# Altium footprint library LTC4359IMS8#PBF.PcbLib: 3 footprints
Each footprint in its own frame and in the unit in brackets; x right, y up, seen from the top. Pads: shape width x height; smd on the part's side, far side on the other; paste and mask are expansions set on the pad; w line width, h text height; cw(c..) or ccw(c..) is an arc to the next point about the centre after c.
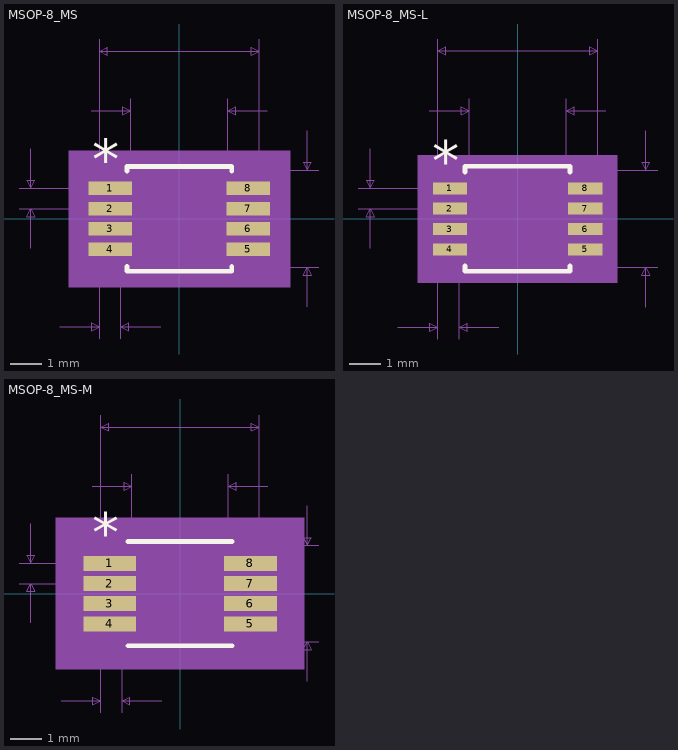
[diagram p0: the footprints below, top view; thin cyan lines are the x and y axes]

## MSOP-8_MS [mil]
pads (8):
  rect 55x17 smd paste+0 mask+0: 1(-87,38.39) 2(-87,12.8) 3(-87,-12.8) 4(-87,-38.39) 5(87,-38.39) 6(87,-12.8) 7(87,12.8) 8(87,38.39)
Top Overlay:
  lines w6: -66,-59.99 -66,-66 66,-66 66,-59.99 ; -66,59.99 -66,66 66,66 66,59.99
  text "*" at -109.5,50.39 h50
Mechanical 5:
  region: 139.5,-86 -139.5,-86 -139.5,86 139.5,86
Mechanical 7:
  lines w1: -202,12.8 -87,12.8 ; -202,38.39 -87,38.39 ; -187,-37.2 -187,12.8 ; -187,88.39 -187,38.39 ; -150.5,-136 -100.5,-136 ; -111,136 -61,136 ; -100.5,-151 -100.5,0 -100.5,226 ; -73.5,-151 -73.5,0 ; -61,0 -61,151 ; -23.5,-136 -73.5,-136 ; 0,-61 176,-61 ; 0,61 176,61 ; 61,0 61,151 ; 100.5,0 100.5,226 ; 111,136 61,136 ; 161,-111 161,-61 ; 161,111 161,61 ; -187,12.8 -192,2.8 -182,2.8 -187,12.8 ; -187,38.39 -192,48.39 -182,48.39 -187,38.39 ; -100.5,-136 -110.5,-131 -110.5,-141 -100.5,-136 ; -100.5,211 100.5,211 ; -100.5,211 -90.5,216 -90.5,206 -100.5,211 ; -73.5,-136 -63.5,-131 -63.5,-141 -73.5,-136 ; -61,136 -71,141 -71,131 -61,136 ; 61,136 71,141 71,131 61,136 ; 100.5,211 90.5,216 90.5,206 100.5,211 ; 161,-61 156,-71 166,-71 161,-61 ; 161,61 156,71 166,71 161,61
  text "Default Padstyle: RX55Y17D0T" at -350,-261 h50
  text "Pin One Padstyle: RX55Y17D0T" at -350,-321 h50
  text "Alt 1 Padstyle: OX60Y90D30P" at -337.5,-501 h50
  text "Alt 2 Padstyle: OX90Y60D30P" at -337.5,-561 h50
  text "0.122in/3.099mm" at -93.75,156 h25
  text "0.201in/5.105mm" at -93.75,231 h25
  text "0.122in/3.099mm" at 181,-12.5 h25
  text "0.026in/0.65mm" at -382,13.09 h25
  text "0.027in/0.686mm" at -180.75,-181 h25
Mechanical 13:
  lines w0: -12,61 ccw(c0,61) 12,61
  lines w1: -100.5,-45.89 -100.5,-30.89 -61,-30.89 -61,-45.89 -100.5,-45.89 ; -100.5,-20.3 -100.5,-5.3 -61,-5.3 -61,-20.3 -100.5,-20.3 ; -100.5,5.3 -100.5,20.3 -61,20.3 -61,5.3 -100.5,5.3 ; -100.5,30.89 -100.5,45.89 -61,45.89 -61,30.89 -100.5,30.89 ; -61,-61 61,-61 61,61 -61,61 -61,-61 ; 61,-45.89 61,-30.89 100.5,-30.89 100.5,-45.89 61,-45.89 ; 61,-20.3 61,-5.3 100.5,-5.3 100.5,-20.3 61,-20.3 ; 61,5.3 61,20.3 100.5,20.3 100.5,5.3 61,5.3 ; 61,30.89 61,45.89 100.5,45.89 100.5,30.89 61,30.89
  text "*" at -58.5,8 h50
Mechanical 15:
  region: -71,-56.89 -124.5,-56.89 -124.5,56.89 -71,56.89 -71,71 71,71 71,56.89 124.5,56.89 124.5,-56.89 71,-56.89 71,-71 -71,-71
  lines w6: -124.5,-56.89 -124.5,56.89 -71,56.89 -71,71 71,71 71,56.89 124.5,56.89 124.5,-56.89 71,-56.89 71,-71 -71,-71 -71,-56.89 -124.5,-56.89
3D body "MSOP-8_MS.step": height 43.11, standoff 0, extent -100.51,-60 100.51,61.97
3D body: height 10, standoff 0, extent 0,0 10,10

## MSOP-8_MS-L [mil]
pads (8):
  rect 43x15 smd paste+0 mask+0: 1(-85,38.39) 2(-85,12.8) 3(-85,-12.8) 4(-85,-38.39) 5(85,-38.39) 6(85,-12.8) 7(85,12.8) 8(85,38.39)
Top Overlay:
  lines w6: -66,-58.99 -66,-66 66,-66 66,-58.99 ; -66,58.99 -66,66 66,66 66,58.99
  text "*" at -107.5,48.39 h50
Mechanical 5:
  region: 125.5,-80 -125.5,-80 -125.5,80 125.5,80
Mechanical 7:
  lines w1: -200,12.8 -85,12.8 ; -200,38.39 -85,38.39 ; -185,-37.2 -185,12.8 ; -185,88.39 -185,38.39 ; -150.5,-136 -100.5,-136 ; -111,136 -61,136 ; -100.5,-151 -100.5,0 -100.5,226 ; -73.5,-151 -73.5,0 ; -61,0 -61,151 ; -23.5,-136 -73.5,-136 ; 0,-61 176,-61 ; 0,61 176,61 ; 61,0 61,151 ; 100.5,0 100.5,226 ; 111,136 61,136 ; 161,-111 161,-61 ; 161,111 161,61 ; -185,12.8 -180,2.8 -190,2.8 -185,12.8 ; -185,38.39 -180,48.39 -190,48.39 -185,38.39 ; -100.5,-136 -110.5,-141 -110.5,-131 -100.5,-136 ; -100.5,211 -90.5,206 -90.5,216 -100.5,211 ; -100.5,211 100.5,211 ; -73.5,-136 -63.5,-141 -63.5,-131 -73.5,-136 ; -61,136 -71,131 -71,141 -61,136 ; 61,136 71,131 71,141 61,136 ; 100.5,211 90.5,206 90.5,216 100.5,211 ; 161,-61 166,-71 156,-71 161,-61 ; 161,61 166,71 156,71 161,61
  text "0.027in/0.686mm" at -180.75,-181 h25
  text "0.026in/0.65mm" at -380,13.09 h25
  text "0.122in/3.099mm" at 181,-12.5 h25
  text "0.201in/5.105mm" at -93.75,231 h25
  text "0.122in/3.099mm" at -93.75,156 h25
  text "Alt 2 Padstyle: OX90Y60D30P" at -337.5,-561 h50
  text "Alt 1 Padstyle: OX60Y90D30P" at -337.5,-501 h50
  text "Pin One Padstyle: RX43Y15D0T" at -350,-321 h50
  text "Default Padstyle: RX43Y15D0T" at -350,-261 h50
Mechanical 13:
  lines w0: -12,61 ccw(c0,61) 12,61
  lines w1: -100.5,-45.89 -61,-45.89 -61,-30.89 -100.5,-30.89 -100.5,-45.89 ; -100.5,-20.3 -61,-20.3 -61,-5.3 -100.5,-5.3 -100.5,-20.3 ; -100.5,5.3 -61,5.3 -61,20.3 -100.5,20.3 -100.5,5.3 ; -100.5,30.89 -61,30.89 -61,45.89 -100.5,45.89 -100.5,30.89 ; -61,-61 -61,61 61,61 61,-61 -61,-61 ; 61,-45.89 100.5,-45.89 100.5,-30.89 61,-30.89 61,-45.89 ; 61,-20.3 100.5,-20.3 100.5,-5.3 61,-5.3 61,-20.3 ; 61,5.3 100.5,5.3 100.5,20.3 61,20.3 61,5.3 ; 61,30.89 100.5,30.89 100.5,45.89 61,45.89 61,30.89
  text "*" at -58.5,8 h50
Mechanical 15:
  region: -65,-49.89 -110.5,-49.89 -110.5,49.89 -65,49.89 -65,65 65,65 65,49.89 110.5,49.89 110.5,-49.89 65,-49.89 65,-65 -65,-65
  lines w6: -110.5,-49.89 -65,-49.89 -65,-65 65,-65 65,-49.89 110.5,-49.89 110.5,49.89 65,49.89 65,65 -65,65 -65,49.89 -110.5,49.89 -110.5,-49.89
3D body: height 10, standoff 0, extent 0,0 10,10

## MSOP-8_MS-M [mil]
pads (8):
  rect 67x19 smd paste+0 mask+0: 1(-89,38.39) 2(-89,12.8) 3(-89,-12.8) 4(-89,-38.39) 5(89,-38.39) 6(89,-12.8) 7(89,12.8) 8(89,38.39)
Top Overlay:
  lines w6: -66,-66 66,-66 ; -66,66 66,66
  text "*" at -111.5,52.39 h50
Mechanical 5:
  region: 157.5,-96 -157.5,-96 -157.5,96 157.5,96
Mechanical 7:
  lines w1: -204,12.8 -89,12.8 ; -204,38.39 -89,38.39 ; -189,-37.2 -189,12.8 ; -189,88.39 -189,38.39 ; -150.5,-136 -100.5,-136 ; -111,136 -61,136 ; -100.5,-151 -100.5,0 -100.5,226 ; -73.5,-151 -73.5,0 ; -61,0 -61,151 ; -23.5,-136 -73.5,-136 ; 0,-61 176,-61 ; 0,61 176,61 ; 61,0 61,151 ; 100.5,0 100.5,226 ; 111,136 61,136 ; 161,-111 161,-61 ; 161,111 161,61 ; -189,12.8 -184,2.8 -194,2.8 -189,12.8 ; -189,38.39 -184,48.39 -194,48.39 -189,38.39 ; -100.5,-136 -110.5,-141 -110.5,-131 -100.5,-136 ; -100.5,211 -90.5,206 -90.5,216 -100.5,211 ; -100.5,211 100.5,211 ; -73.5,-136 -63.5,-141 -63.5,-131 -73.5,-136 ; -61,136 -71,131 -71,141 -61,136 ; 61,136 71,131 71,141 61,136 ; 100.5,211 90.5,206 90.5,216 100.5,211 ; 161,-61 166,-71 156,-71 161,-61 ; 161,61 166,71 156,71 161,61
  text "0.027in/0.686mm" at -180.75,-181 h25
  text "0.026in/0.65mm" at -384,13.09 h25
  text "0.122in/3.099mm" at 181,-12.5 h25
  text "0.201in/5.105mm" at -93.75,231 h25
  text "0.122in/3.099mm" at -93.75,156 h25
  text "Alt 2 Padstyle: OX90Y60D30P" at -337.5,-561 h50
  text "Alt 1 Padstyle: OX60Y90D30P" at -337.5,-501 h50
  text "Pin One Padstyle: RX67Y19D0T" at -350,-321 h50
  text "Default Padstyle: RX67Y19D0T" at -350,-261 h50
Mechanical 13:
  lines w0: -12,61 ccw(c0,61) 12,61
  lines w1: -100.5,-45.89 -61,-45.89 -61,-30.89 -100.5,-30.89 -100.5,-45.89 ; -100.5,-20.3 -61,-20.3 -61,-5.3 -100.5,-5.3 -100.5,-20.3 ; -100.5,5.3 -61,5.3 -61,20.3 -100.5,20.3 -100.5,5.3 ; -100.5,30.89 -61,30.89 -61,45.89 -100.5,45.89 -100.5,30.89 ; -61,-61 -61,61 61,61 61,-61 -61,-61 ; 61,-45.89 100.5,-45.89 100.5,-30.89 61,-30.89 61,-45.89 ; 61,-20.3 100.5,-20.3 100.5,-5.3 61,-5.3 61,-20.3 ; 61,5.3 100.5,5.3 100.5,20.3 61,20.3 61,5.3 ; 61,30.89 100.5,30.89 100.5,45.89 61,45.89 61,30.89
  text "*" at -58.5,8 h50
Mechanical 15:
  region: -81,-67.89 -142.5,-67.89 -142.5,67.89 -81,67.89 -81,81 81,81 81,67.89 142.5,67.89 142.5,-67.89 81,-67.89 81,-81 -81,-81
  lines w6: -142.5,-67.89 -81,-67.89 -81,-81 81,-81 81,-67.89 142.5,-67.89 142.5,67.89 81,67.89 81,81 -81,81 -81,67.89 -142.5,67.89 -142.5,-67.89
3D body: height 10, standoff 0, extent 0,0 10,10